# EAGLE library part ADA4940-2ACPZ-RL (library ADA4940-2ACPZ-RL)
Differential Amplifiers Sub 10M W ADC Driver for PULSAR Family Source: Datasheet <https://www.mouser.in/datasheet/2/609/ADA4940-1_4940-2-878284.pdf>
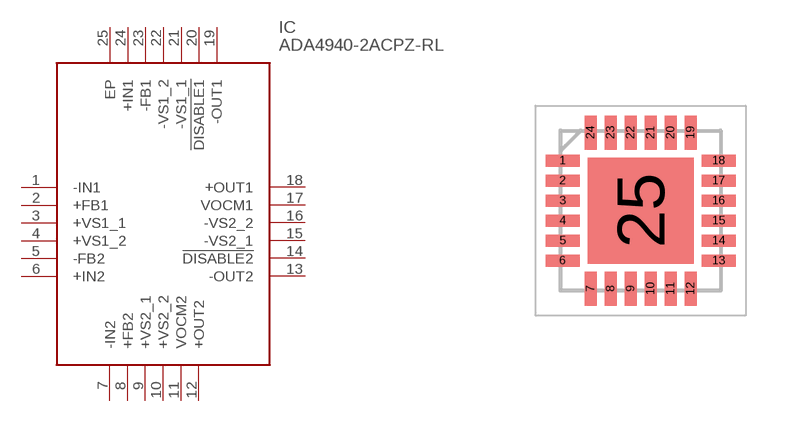
[diagram p0: symbol with the pads of QFN50P400X400X80-25N; footprint QFN50P400X400X80-25N]

Designator prefix IC

## ADA4940-2ACPZ-RL (Description: Differential Amplifiers Sub 10M W ADC Driver for PULSAR Family; Height: 0.8mm; Manufacturer_Name: Analog Devices; Manufacturer_Part_Number: ADA4940-2ACPZ-RL; Mouser_Part_Number: 584-ADA4940-2ACPZ-R; Mouser_Price-Stock: https://www.mouser.co.uk/ProductDetail/Analog-Devices/ADA4940-2ACPZ-RL?qs=BpaRKvA4VqHPFnyO4tWbXA%3D%3D)  [QFN50P400X400X80-25N]
1  -IN1
2  +FB1
3  +VS1_1
4  +VS1_2
5  -FB2
6  +IN2
7  -IN2
8  +FB2
9  +VS2_1
10  +VS2_2
11  VOCM2
12  +OUT2
13  -OUT2
14  !DISABLE2
15  -VS2_1
16  -VS2_2
17  VOCM1
18  +OUT1
19  -OUT1
20  !DISABLE1
21  -VS1_1
22  -VS1_2
23  -FB1
24  +IN1
25  EP

## Footprint QFN50P400X400X80-25N (pad centres in mm)
CP-24-7 (LFCSP)
smd 0.85 x 0.3: 1 -1.95,1.25; 2 -1.95,0.75; 3 -1.95,0.25; 4 -1.95,-0.25; 5 -1.95,-0.75; 6 -1.95,-1.25; 13 1.95,-1.25; 14 1.95,-0.75; 15 1.95,-0.25; 16 1.95,0.25; 17 1.95,0.75; 18 1.95,1.25
smd 0.3 x 0.85: 7 -1.25,-1.95; 8 -0.75,-1.95; 9 -0.25,-1.95; 10 0.25,-1.95; 11 0.75,-1.95; 12 1.25,-1.95; 19 1.25,1.95; 20 0.75,1.95; 21 0.25,1.95; 22 -0.25,1.95; 23 -0.75,1.95; 24 -1.25,1.95
smd 2.65 x 2.65: 25 0,0